# Altium footprint library MLACH0_9.PCBLIB: 97 footprints (part 7 of 7)
Each footprint in its own frame and in the unit in brackets; x right, y up, seen from the top. Pads: shape width x height; smd on the part's side, far side on the other; paste and mask are expansions set on the pad; w line width, h text height; cw(c..) or ccw(c..) is an arc to the next point about the centre after c.
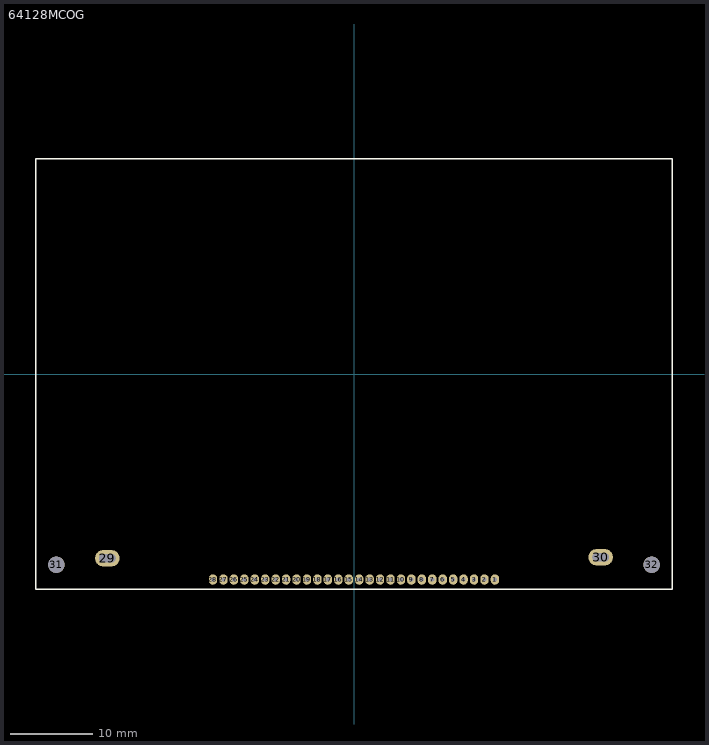
[diagram p6: the footprint, top view; thin cyan lines are the x and y axes]

## 64128MCOG [mm]
pads (32):
  oval 1.016x1.27 hole 0.508 mask+0.254: 1(17.14,-25) 2(15.87,-25) 3(14.6,-25) 4(13.33,-25) 5(12.06,-25) 6(10.79,-25) 7(9.52,-25) 8(8.25,-25) 9(6.98,-25) 10(5.71,-25) 11(4.44,-25) 12(3.17,-25) 13(1.9,-25) 14(0.63,-25) 15(-0.64,-25) 16(-1.91,-25) 17(-3.18,-25) 18(-4.45,-25) 19(-5.72,-25) 20(-6.99,-25) 21(-8.26,-25) 22(-9.53,-25) 23(-10.8,-25) 24(-12.07,-25) 25(-13.34,-25) 26(-14.61,-25) 27(-15.88,-25) 28(-17.15,-25)
  oval 3x2 hole 1 slot 2 at 0 deg mask+0.254: 29(-30,-22.41) 30(30,-22.29)
  round 2 hole 2 mask+0.254: 31(-36.2,-23.2) 32(36.2,-23.2)
TopOverlay:
  lines w0.203: -38.7,-26.2 38.7,-26.2 38.7,26.2 -38.7,26.2 -38.7,-26.2